# Altium schematic symbol library [Q] Биполярные транзисторы.SchLib: 12 symbols
Pins are listed as number, name and electrical type; pins without a type are passive.

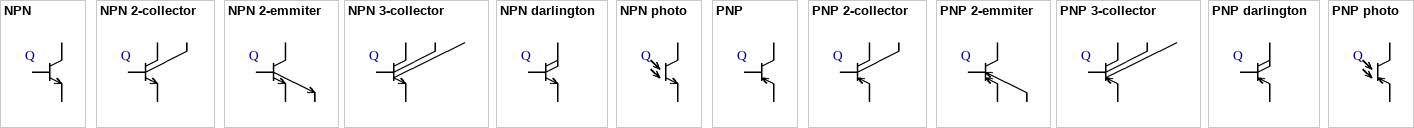
[diagram p0: symbols NPN to PNP photo]

## NPN
designator Q
pins: 1, 2, 3

## NPN 2-collector
designator Q
pins: 1, 2, 2, 3, 4

## NPN 2-emmiter
designator Q
pins: 1, 2, 2, 3, 4

## NPN 3-collector
designator Q
pins: 1, 2, 2, 3, 4, 4

## NPN darlington
designator Q
pins: 1, 2, 3

## NPN photo
designator Q
pins: 1, 2

## PNP
designator Q
pins: 1, 2, 3

## PNP 2-collector
designator Q
pins: 1, 2, 2, 3, 4

## PNP 2-emmiter
designator Q
pins: 1, 2, 2, 3, 4

## PNP 3-collector
designator Q
pins: 1, 2, 2, 3, 4, 5

## PNP darlington
designator Q
pins: 1, 2, 3

## PNP photo
designator Q
pins: 1, 2